# Altium schematic symbol library 150040GS73220.SchLib: 1 symbol
Pins are listed as number, name and electrical type; pins without a type are passive.

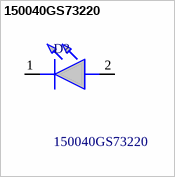
[diagram p0: symbol 150040GS73220]

## 150040GS73220
designator D?
WURTH ELEKTRONIK - 150040GS73220 - LED, Green, SMD, 0402, Rectangular, 3.3V/20mA Forward, 525nm, 750mcd, 120 Viewing Angle; Geometry.Height: 0.35mm; Mouser Part Number: 710-150040GS73220; Mouser Price/Stock: https://www.mouser.co.uk/ProductDetail/Wurth-Elektronik/150040GS73220?qs=u16ybLDytRZ9vktXLUK1Kg%3D%3D; Manufacturer_Name: Wurth Elektronik; Manufacturer_Part_Number: 150040GS73220; Datasheet Link: *
footprint 150040GS73220
pins: 1 K, 2 A